# Altium footprint library ufl.PcbLib: 1 footprints
Each footprint in its own frame and in the unit in brackets; x right, y up, seen from the top. Pads: shape width x height; smd on the part's side, far side on the other; paste and mask are expansions set on the pad; w line width, h text height; cw(c..) or ccw(c..) is an arc to the next point about the centre after c.
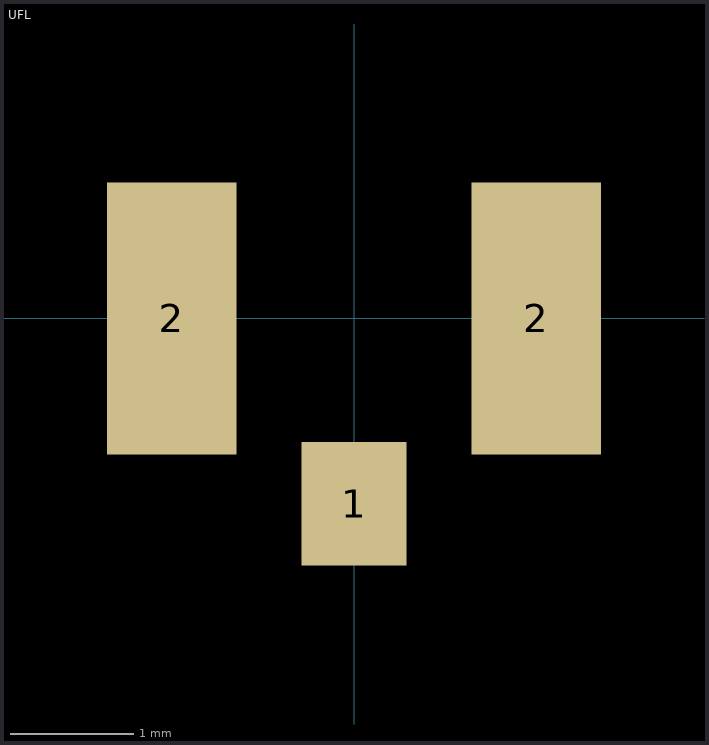
[diagram p0: the footprint, top view; thin cyan lines are the x and y axes]

## UFL [mm]
pads (3):
  rect 0.85x1 smd: 1(0,-1.5)
  rect 1.05x2.2 smd: 2(-1.475,0) 2(1.475,0)
3D body "u.Fl Antenna Connector - 523-A-1JB.STEP": height 1.25, standoff 0, extent -1.525,-1.55 1.475,1.55